# Altium footprint library M2FS FLS Data Formatter 8_14_2012.PcbLib: 27 footprints (part 2 of 2)
Each footprint in its own frame and in the unit in brackets; x right, y up, seen from the top. Pads: shape width x height; smd on the part's side, far side on the other; paste and mask are expansions set on the pad; w line width, h text height; cw(c..) or ccw(c..) is an arc to the next point about the centre after c.
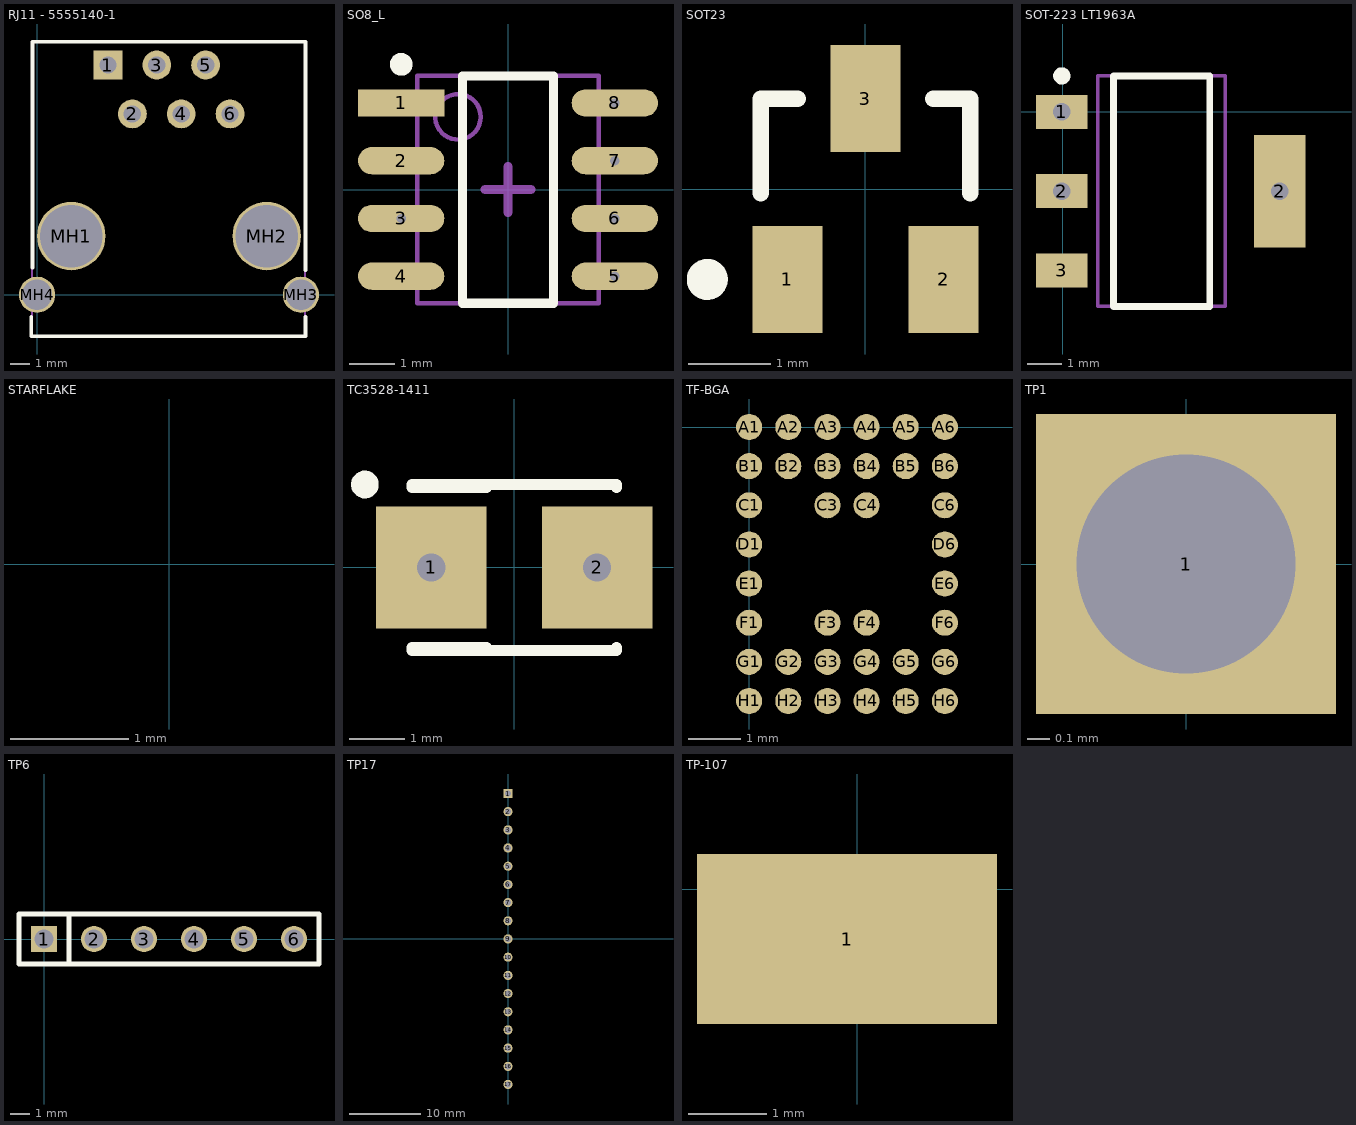
[diagram p1: the footprints below, top view; thin cyan lines are the x and y axes]

## RJ11 - 5555140-1 [mil] "RIGHT-ANGLE RJ11 CONNECTOR"
pads (10):
  rect 59.05x59.05 hole 35.43: 1(145,470)
  round 59.05 hole 35.43: 2(195,370) 3(245,470) 4(295,370) 5(345,470) 6(395,370)
  round 140 hole 128 unplated: MH1(70,120) MH2(470,120)
  round 74 hole 62: MH3(540,0) MH4(0,0)
Top Overlay:
  lines w7.87: -11.81,-85 -11.81,-45 ; -9.5,-85 549.5,-85 549.5,-45 ; -9.5,55 -9.5,517.64 549.5,517.64 549.5,430.82 549.5,257.17 549.5,50
Mechanical 13:
  lines w3.94: -10,-85 548.19,-85 548.19,517.64 -10,517.64 -10,-85
3D body: height 495, standoff 0, extent -9.5,-85 548.84,517.64

## SO8_L [mm] "SOIC, 8-Leads, Body 4.9x3.9mm, Pitch 1.27mm, IPC High Density"
height 1.75
pads (8):
  rect 1.9x0.6 smd: 1(-2.35,1.905)
  oval 1.9x0.6 smd: 2(-2.35,0.635) 4(-2.35,-1.905)
  oval 1.9x0.6 hole 0.203: 3(-2.35,-0.635) 5(2.35,-1.905) 6(2.35,-0.635) 7(2.35,0.635) 8(2.35,1.905)
Top Overlay:
  circle w0.25: c-2.35,2.755 r0.125
  lines w0.2: -1,-2.5 1,-2.5 1,2.5 -1,2.5 -1,-2.5
Mechanical 13:
  circle w0.1: c-1.1,1.6 r0.5
  lines w0.1: -2,-2.5 2,-2.5 2,2.5 -2,2.5 -2,-2.5
Mechanical 15:
  lines w0.203: -0.5,0 0.5,0 ; 0,-0.5 0,0.5
3D body: height 1.75, standoff 0, extent -2,-2.5 2,2.5

## SOT23 [mm] "SOT-23; 3 Leads; Body 3.0 x 2.6 mm, inc. leads (LxW max)"
height 1.1
pads (3):
  rect 0.85x1.3 smd: 1(-0.95,-1.1) 2(0.95,-1.1) 3(0,1.1)
Top Overlay:
  circle w0.25: c-1.925,-1.1 r0.125
  lines w0.2: -1.275,-0.05 -1.275,1.1 -0.825,1.1 ; 0.825,1.1 1.275,1.1 1.275,-0.05

## SOT-223 LT1963A [mil]
height 1
pads (4):
  rect 59x39 hole 20: 1(-1.17,-0.45) 2(-1.17,-91)
  rect 59x129 hole 20: 2(248,-91)
  rect 59x39 smd: 3(-1.17,-181.55)
Top Overlay:
  circle w9.84: c-1.17,40.89 r4.92
  lines w7.87: 57.88,-222.89 57.88,40.89 168.12,40.89 168.12,-222.89 57.88,-222.89
Mechanical 13:
  lines w3.94: 40.17,-222.89 40.17,40.89 185.83,40.89 185.83,-222.89 40.17,-222.89
3D body: height 66.93, standoff 0, extent 40.17,-222.89 185.83,40.89

## STARFLAKE [mil]
height 47.24
Multi-Layer:
  lines w8: -50,0 -30,0 ; -40,-10 -30,0 ; -40,10 -30,0 ; -30,-30 -10,-10 ; -30,30 -10,10 ; -20,0 0,0 ; -10,-40 0,-30 ; -10,40 0,30 ; 0,-50 0,-30 ; 0,-20 0,0 ; 0,20 0,0 ; 0,50 0,30 ; 10,-40 0,-30 ; 10,-10 30,-30 ; 10,10 30,30 ; 10,40 0,30 ; 20,0 0,0 ; 40,-10 30,0 ; 40,10 30,0 ; 50,0 30,0

## TC3528-1411 [mm] "Capacitor, SM Tantalum; Body 3.5 x 2.8 mm (LxW typ)"
height 2.5
pads (2):
  rect 2x2.2 hole 0.508: 1(-1.5,0) 2(1.5,0)
Top Overlay:
  circle w0.25: c-2.7,1.5 r0.125
  lines w0.2: -1.85,-1.5 1.85,-1.5 1.85,-1.45 ; -1.85,-1.45 -0.5,-1.45 ; -1.85,1.45 -0.5,1.45 ; -1.85,1.5 1.85,1.5 1.85,1.45

## TF-BGA [mm]
height 1.2
pads (36):
  round 0.5 smd: A1(0,0) A2(0.75,0) A3(1.5,0) A4(2.25,0) A5(3,0) A6(3.75,0) B1(0,-0.75) B2(0.75,-0.75) B3(1.5,-0.75) B4(2.25,-0.75) B5(3,-0.75) B6(3.75,-0.75) C1(0,-1.5) C3(1.5,-1.5) C4(2.25,-1.5) C6(3.75,-1.5) D1(0,-2.25) D6(3.75,-2.25) E1(0,-3) E6(3.75,-3) F1(0,-3.75) F3(1.5,-3.75) F4(2.25,-3.75) F6(3.75,-3.75) G1(0,-4.5) G2(0.75,-4.5) G3(1.5,-4.5) G4(2.25,-4.5) G5(3,-4.5) G6(3.75,-4.5) H1(0,-5.25) H2(0.75,-5.25) H3(1.5,-5.25) H4(2.25,-5.25) H5(3,-5.25) H6(3.75,-5.25)

## TP1 [mil] "Male Stand-off"
height 0.35
pads (1):
  rect 52x52 hole 38: 1(0,0)

## TP6 [mil] "Test Point 6"
pads (6):
  rect 52x52 hole 38: 1(0,0)
  round 52 hole 38: 2(100,0) 3(200,0) 4(300,0) 5(400,0) 6(500,0)
Top Overlay:
  lines w10: 50,-50 50,50 ; -50,-50 550,-50 550,50 -50,50 -50,-50

## TP17 [mil] "Test Point 17"
height 1
pads (17):
  rect 50x50 hole 32: 1(0,799.21)
  round 50 hole 32: 2(0,699.8) 3(0,599.41) 4(0,500) 5(0,399.61) 6(0,299.21) 7(0,199.8) 8(0,99.41) 9(0,0) 10(0,-100.39) 11(0,-200.79) 12(0,-300.2) 13(0,-400.59) 14(0,-500) 15(0,-600.39) 16(0,-700.79) 17(0,-800.2)

## TP-107 [mil]
height 66.93
pads (1):
  rect 150x85 smd: 1(-5,-25)